# Altium footprint library Connectors - Memory - Card Sockets.PcbLib: 8 footprints
Each footprint in its own frame and in the unit in brackets; x right, y up, seen from the top. Pads: shape width x height; smd on the part's side, far side on the other; paste and mask are expansions set on the pad; w line width, h text height; cw(c..) or ccw(c..) is an arc to the next point about the centre after c.
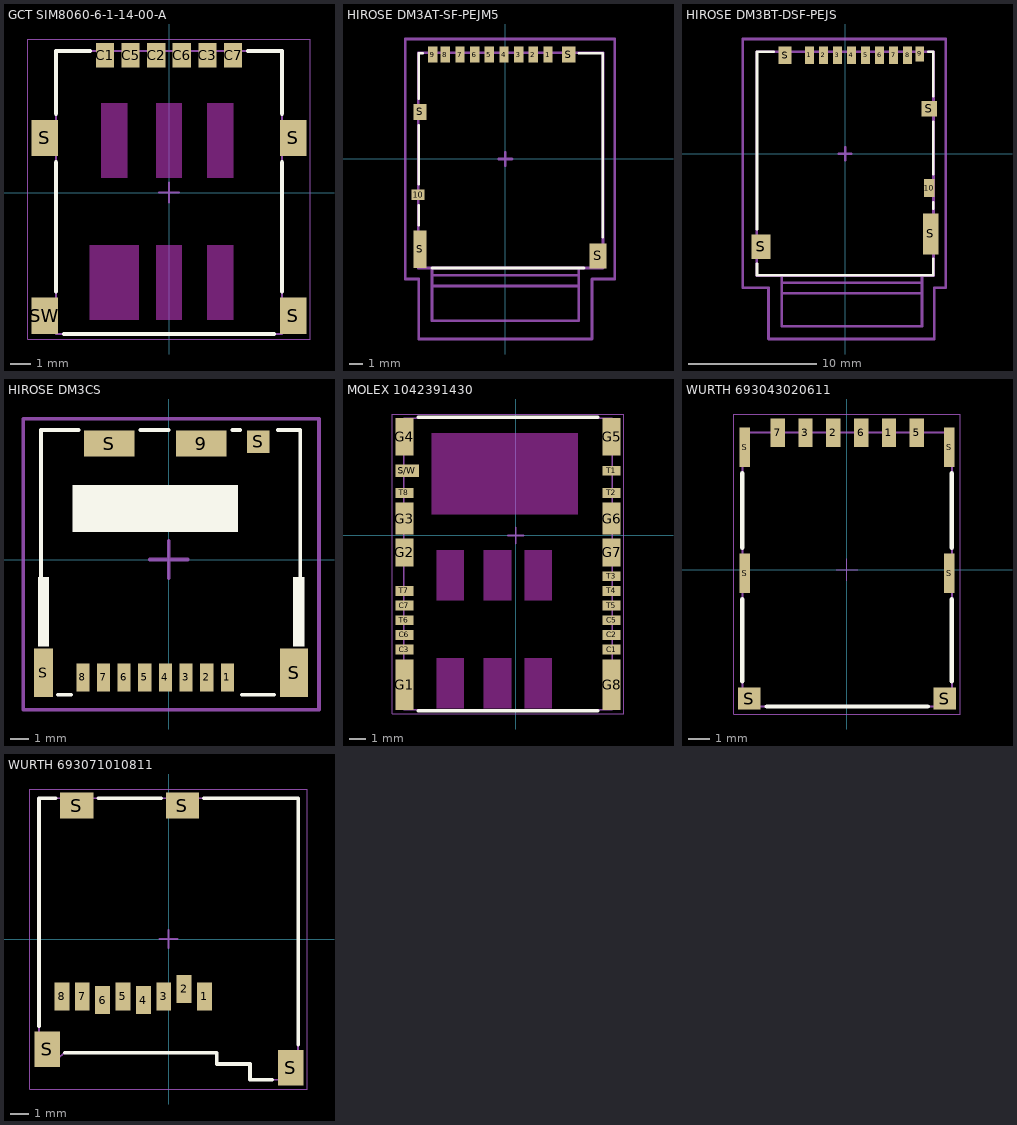
[diagram p0: the footprints below, top view; thin cyan lines are the x and y axes]

## GCT SIM8060-6-1-14-00-A [mm] "6 Position Card Connector NANO SIM Surface Mount, Right Angle Gold"
height 1.43
pads (10):
  rect 0.9x1.2 smd: C1(-3.175,6.8) C2(-0.635,6.8) C3(1.905,6.8) C5(-1.905,6.8) C6(0.635,6.8) C7(3.175,6.8)
  rect 1.3x1.8 smd: S(-6.15,2.7) S(6.15,-6.1) S(6.15,2.7) SW(-6.15,-6.1)
Top Layer keep-out:
  rectangle: -3.93,-6.3 -1.49,-2.6
  rectangle: -0.65,-6.3 0.65,-2.6
  rectangle: 1.89,-6.3 3.19,-2.6
  rectangle: 1.89,0.72 3.19,4.42
  rectangle: -0.65,0.72 0.65,4.42
  rectangle: -3.36,0.72 -2.06,4.42
Top Overlay:
  lines w0.2: -5.6,-4.9 -5.6,1.5 ; -5.6,3.9 -5.6,7 -3.9,7 ; -5.2,-7 5.2,-7 ; 3.9,7 5.6,7 5.6,3.9 ; 5.6,-4.9 5.6,1.5
Mechanical 13:
  lines w0.1: -5.6,-7 -5.6,7 5.6,7 5.6,-7 -5.6,-7
Mechanical 15:
  lines w0.05: -7,-7.25 7,-7.25 7,7.6 -7,7.6 -7,-7.25
  lines w0.1: -0.5,0 0.5,0 ; 0,-0.5 0,0.5
3D body "GCT - SIM8060-6-0-14-00-A.step": height 1.4, standoff -0.03, extent -6.2,-7 6.2,7.1

## HIROSE DM3AT-SF-PEJM5 [mm]
height 1.68
pads (14):
  rect 0.7x1.2 smd: 1(3.2,7.825) 2(2.1,7.825) 3(1,7.825) 4(-0.1,7.825) 5(-1.2,7.825) 6(-2.3,7.825) 7(-3.4,7.825) 8(-4.5,7.825) 9(-5.45,7.825)
  rect 1x0.8 smd: 10(-6.55,-2.675)
  rect 1x2.8 smd: S(-6.4,-6.775)
  rect 1x1.2 smd: S(-6.4,3.525) S(4.75,7.825)
  rect 1.3x1.9 smd: S(6.95,-7.275)
Top Overlay:
  lines w0.2: -6.5,-4.975 -6.5,-3.475 ; -6.5,-1.875 -6.5,2.525 ; -6.5,4.525 -6.5,7.925 -6.2,7.925 ; -5.5,-8.175 5.9,-8.175 ; 5.5,7.925 7.3,7.925 7.3,-5.875
Mechanical 13:
  lines w0.2: -5.5,-8.725 5.5,-8.725 ; -5.5,-8.175 -5.5,-9.525 ; 5.5,-8.175 5.5,-9.525 ; -5.5,-9.525 5.5,-9.525 ; -5.5,-9.525 -5.5,-12.125 5.5,-12.125 5.5,-9.525 ; -6.525,-8.175 7.325,-8.175 7.325,7.975 -6.525,7.975 -6.525,-8.175
Mechanical 15:
  lines w0.2: -0.5,0 0.5,0 ; 0,-0.5 0,0.5 ; -7.5,-9 -7.5,-8.5 -7.5,9 8.2,9 8.2,-8 8.2,-9 6.5,-9 6.5,-13.5 -6.5,-13.5 -6.5,-9 -7.5,-9
3D body "Hirose DM3AT-SF-PEJM5.STEP": height 1.68, standoff 0, extent -6.525,-8.175 7.325,7.975

## HIROSE DM3BT-DSF-PEJS [mm]
height 2.38
pads (14):
  rect 0.7x1.4 smd: 1(-2.8,7.725) 2(-1.7,7.725) 3(-0.6,7.725) 4(0.5,7.725) 5(1.6,7.725) 6(2.7,7.725) 7(3.8,7.725) 8(4.9,7.725)
  rect 0.7x1.2 smd: 9(5.85,7.825)
  rect 0.8x1.4 smd: 10(6.6,-2.675)
  rect 1.5x1.9 smd: S(-6.6,-7.275)
  rect 1x1.4 smd: S(-4.7,7.725)
  rect 1.2x1.2 smd: S(6.6,3.525)
  rect 1.2x3.2 smd: S(6.7,-6.275)
Top Overlay:
  lines w0.2: -6.9,-8.6 -6.9,-9.5 6.9,-9.5 6.9,-8.2 ; -6.9,-5.9 -6.9,8 -5.6,8 ; 6.5,8 6.9,8 6.9,4.5 ; 6.9,-4.3 6.9,-3.8 ; 6.9,-1.6 6.9,2.5
Mechanical 13:
  lines w0.2: -4.975,-10.1 6.025,-10.1 ; -4.975,-9.55 -4.975,-10.9 ; 6.025,-9.55 6.025,-10.9 ; -4.975,-10.9 6.025,-10.9 ; -4.975,-10.9 -4.975,-13.5 6.025,-13.5 6.025,-10.9 ; -6.925,-9.55 6.925,-9.55 6.925,8 -6.925,8 -6.925,-9.55
Mechanical 15:
  lines w0.2: -0.5,0 0.5,0 ; 0,-0.5 0,0.5 ; -8,-10.5 -6,-10.5 -6,-14.5 7,-14.5 7,-10.5 7.9,-10.5 7.9,9 -8,9 -8,-10.5
3D body "Hirose DM3BT-DSF-PEJS.STEP": height 1.83, standoff 0, extent -6.925,-9.55 6.925,8

## HIROSE DM3CS [mm]
height 1.83
pads (13):
  rect 0.7x1.5 smd: 1(3.125,-6.275) 2(2.025,-6.275) 3(0.925,-6.275) 4(-0.175,-6.275) 5(-1.275,-6.275) 6(-2.375,-6.275) 7(-3.475,-6.275) 8(-4.575,-6.275)
  rect 2.7x1.4 smd: 9(1.725,6.175) S(-3.175,6.175)
  rect 1x2.6 smd: S(-6.675,-6.025)
  rect 1.2x1.2 smd: S(4.775,6.275)
  rect 1.5x2.6 smd: S(6.675,-6.025)
Top Overlay:
  rectangle: -5.125,1.475 3.675,3.975
  rectangle: -6.975,-4.625 -6.375,-0.925
  rectangle: 6.625,-4.625 7.225,-0.925
  lines w0.2: -6.7,-4.4 -6.8,-4.3 -6.8,6.9 -4.8,6.9 ; -5.9,-7.2 -5.2,-7.2 ; -1.5,6.9 0,6.9 ; 3.4,6.9 3.8,6.9 ; 3.9,-7.2 5.6,-7.2 ; 5.8,6.9 7,6.9 7,-4.4
Mechanical 15:
  lines w0.2: -1,0 1,0 ; 0,-1 0,1 ; -7.75,-8 8,-8 8,7.5 -7.75,7.5 -7.75,-8
3D body "Hirose DM3CS-SF.STEP": height 1.93, standoff 0, extent -6.8,-7.2 7,6.9

## MOLEX 1042391430 [mm] "15 (14 + 1) Position Card Connector Combo - microSD™, NANO SIM Surface Mount, Right Angle Gold or Gold-Palladium"
height 2.05
pads (23):
  rect 1.1x0.6 smd: C1(5.875,-7) C2(5.875,-6.1) C3(-6.825,-7) C5(5.875,-5.2) C6(-6.825,-6.1) C7(-6.825,-4.3) T1(5.875,3.965) T2(5.875,2.61) T3(5.875,-2.5) T4(5.875,-3.4) T5(5.875,-4.3) T6(-6.825,-5.2) T7(-6.825,-3.4) T8(-6.825,2.61)
  rect 1.1x3.1 smd: G1(-6.825,-9.15) G8(5.875,-9.15)
  rect 1.1x1.72 smd: G2(-6.825,-1.04) G7(5.875,-1.04)
  rect 1.1x1.94 smd: G3(-6.825,1.04) G6(5.875,1.04)
  rect 1.1x2.3 smd: G4(-6.825,6.05) G5(5.875,6.05)
  rect 1.45x0.75 smd: S/W(-6.65,3.965)
Top Layer keep-out:
  rectangle: 0.525,-10.6 2.225,-7.5
  rectangle: -1.975,-10.6 -0.275,-7.5
  rectangle: -4.875,-10.6 -3.175,-7.5
  rectangle: 0.525,-4 2.225,-0.9
  rectangle: -1.975,-4 -0.275,-0.9
  rectangle: -4.875,-4 -3.175,-0.9
  rectangle: -5.175,1.3 3.825,6.3
Top Overlay:
  lines w0.2: -5.975,-10.75 5.025,-10.75 ; -5.975,7.25 5.025,7.25
Mechanical 13:
  lines w0.1: -6.875,-10.7 5.925,-10.7 5.925,7.2 -6.875,7.2 -6.875,-10.7
Mechanical 15:
  lines w0.05: -7.575,-10.95 6.625,-10.95 6.625,7.45 -7.575,7.45 -7.575,-10.95
  lines w0.1: -0.5,0 0.5,0 ; 0,-0.5 0,0.5
3D body "Molex - 1042391430.step": height 2.05, standoff 0, extent -6.925,-10.7 5.975,7.2

## PCBComponent_1 [mm]

## WURTH 693043020611 [mm] "Nano SIM Card Connector Push & Pull - 6 Pins"
height 1.2
pads (12):
  rect 0.65x1.3 smd: 1(1.915,6.25) 2(-0.625,6.25) 3(-1.895,6.25) 5(3.185,6.25) 6(0.645,6.25) 7(-3.165,6.25)
  rect 0.48x1.8 smd: S(-4.665,-0.17) S(-4.665,5.58) S(4.665,-0.17) S(4.665,5.58)
  rect 1.03x1 smd: S(-4.46,-5.89) S(4.47,-5.89)
Top Overlay:
  lines w0.2: -4.775,-5.1 -4.775,-1.35 ; -4.775,1 -4.775,4.4 ; -3.665,-6.25 3.685,-6.25 ; 4.785,-5.1 4.785,-1.35 ; 4.785,1 4.785,4.4
Mechanical 13:
  lines w0.1: -4.775,-6.25 -4.775,6.25 4.785,6.25 4.785,-6.25 -4.775,-6.25
Mechanical 15:
  lines w0.05: -0.5,0 0.5,0 ; 0,-0.5 0,0.5 ; -5.175,-6.59 5.175,-6.59 5.175,7.1 -5.175,7.1 -5.175,-6.59
3D body "Wurth - 693043020611.step": height 1.2, standoff -0.01, extent -4.75,-6.25 4.75,6.25

## WURTH 693071010811 [mm] "9 (8 + 1) Position Card Connector Secure Digital - microSD™ Surface Mount, Right Angle Gold"
height 1.83
pads (12):
  rect 0.8x1.5 smd: 1(1.94,-3.1) 2(0.84,-2.7) 3(-0.26,-3.1) 4(-1.36,-3.3) 5(-2.46,-3.1) 6(-3.56,-3.3) 7(-4.66,-3.1) 8(-5.76,-3.1)
  rect 1.4x1.9 smd: S(-6.55,-5.95) S(6.6,-6.95)
  rect 1.8x1.4 smd: S(-4.95,7.2) S(0.75,7.2)
Top Overlay:
  lines w0.2: -7,-4.7 -7,7.6 -6.1,7.6 ; -5.6,-6.15 2.6,-6.15 2.6,-6.75 4.4,-6.75 4.4,-7.6 5.6,-7.6 ; -3.8,7.6 -0.4,7.6 ; 1.9,7.6 7,7.6 7,-5.7
Mechanical 13:
  lines w0.1: -6.2,-6.6 -7,-6.6 -7,7.6 7,7.6 7,-7.6 4.4,-7.6 4.4,-6.75 2.6,-6.75 2.6,-6.15 -5.6,-6.15 -6.199,-6.601
Mechanical 15:
  lines w0.05: -7.5,-8.1 7.5,-8.1 7.5,8.1 -7.5,8.1 -7.5,-8.1
  lines w0.1: -0.5,0 0.5,0 ; 0,-0.5 0,0.5
3D body "Wurth - WR-CRD 693071010811.step": height 1.84, standoff -0.07, extent -7,-7.6 7,7.6